# Altium footprint library STM32F4.PcbLib: 30 footprints (part 1 of 2)
Each footprint in its own frame and in the unit in brackets; x right, y up, seen from the top. Pads: shape width x height; smd on the part's side, far side on the other; paste and mask are expansions set on the pad; w line width, h text height; cw(c..) or ccw(c..) is an arc to the next point about the centre after c.
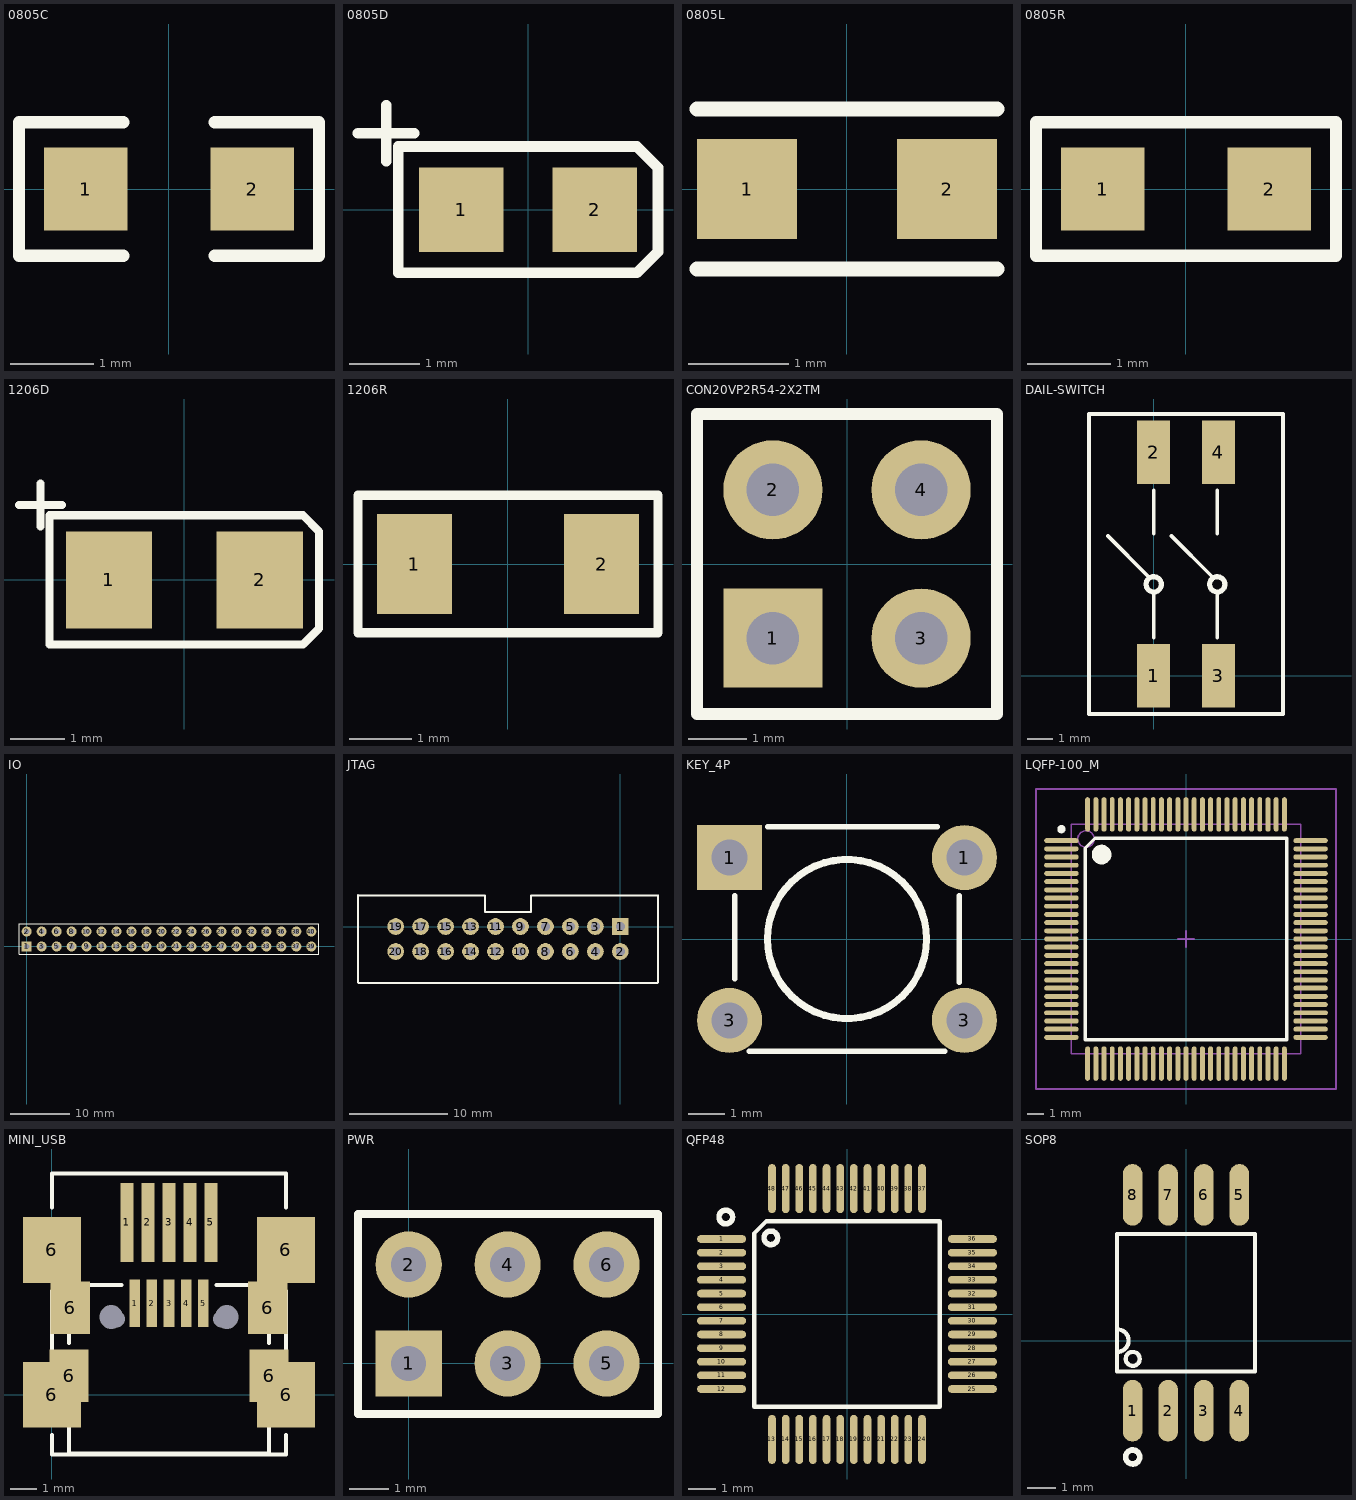
[diagram p0: the footprints below, top view; thin cyan lines are the x and y axes]

## 0805C [mm]
pads (2):
  rect 1x1 smd: 1(-1,0) 2(1,0)
Top Overlay:
  lines w0.15: -0.55,-0.8 -1.8,-0.8 -1.8,0.8 -0.55,0.8 ; 0.55,-0.8 1.8,-0.8 1.8,0.8 0.55,0.8

## 0805D [mm]
pads (2):
  rect 1.2x1.2 smd: 1(-0.95,0) 2(0.95,0)
Top Overlay:
  lines w0.15: -2.42,1.09 -1.62,1.09 ; -2.02,0.69 -2.02,1.49 ; -1.85,-0.9 -1.85,0.9 1.55,0.9 1.85,0.6 1.85,-0.6 1.55,-0.9 -1.85,-0.9

## 0805L [mm]
pads (2):
  rect 1x1 smd: 1(-1,0) 2(1,0)
Top Overlay:
  lines w0.15: -1.5,-0.8 1.5,-0.8 ; -1.5,0.8 1.5,0.8

## 0805R [mm]
pads (2):
  rect 1x1 smd: 1(-1,0) 2(1,0)
Top Overlay:
  lines w0.15: -1.8,-0.8 -1.8,0.8 1.8,0.8 1.8,-0.8 -1.8,-0.8

## 1206D [mm]
pads (2):
  rect 1.6x1.8 smd: 1(-1.4,0) 2(1.4,0)
Top Overlay:
  lines w0.15: -3.07,1.39 -2.27,1.39 ; -2.67,0.99 -2.67,1.79 ; -1.7,-1.2 -2.5,-1.2 ; -2.5,-1.2 -2.5,1.2 ; -2.5,-1.2 2.2,-1.2 2.5,-0.9 2.5,0.9 2.2,1.2 -2.5,1.2 ; -2.5,-1.2 -2.5,1.2

## 1206R [mm]
pads (2):
  rect 1.2x1.6 smd: 1(-1.5,0) 2(1.5,0)
Top Overlay:
  lines w0.15: -2.4,-1.1 -2.4,1.1 2.4,1.1 2.4,-1.1 -2.4,-1.1

## CON20VP2R54-2X2TM [mm]
pads (4):
  rect 1.7x1.7 hole 0.9: 1(-1.27,-1.27)
  round 1.7 hole 0.9: 2(-1.27,1.27) 3(1.27,-1.27) 4(1.27,1.27)
Top Overlay:
  lines w0.2: -2.57,-2.57 -2.57,2.57 2.57,2.57 2.57,-2.57 -2.57,-2.57

## DAIL-SWITCH [mm]
pads (4):
  rect 1.3x2.5 smd: 1(0,0) 2(0,8.8) 3(2.54,0) 4(2.54,8.8)
Top Overlay:
  circle w0.2: c2.5,3.6 r0.3
  circle w0.2: c0,3.6 r0.3
  lines w0.15: -1.8,5.5 -0.2,3.9 ; 0,1.5 0,2.5 0,3.3 ; 0,5.6 0,7.3 ; 0.7,5.5 2.3,3.9 ; 2.5,1.5 2.5,3.3 ; 2.5,5.6 2.5,7.3 ; -2.54,-1.5 5.08,-1.5 5.08,10.3 -2.54,10.3 -2.54,-1.5

## IO [mm]
pads (40):
  rect 1.7x1.7 hole 0.9: 1(0,0)
  round 1.7 hole 0.9: 2(0,2.54) 3(2.54,0) 4(2.54,2.54) 5(5.08,0) 6(5.08,2.54) 7(7.62,0) 8(7.62,2.54) 9(10.16,0) 10(10.16,2.54) 11(12.7,0) 12(12.7,2.54) 13(15.24,0) 14(15.24,2.54) 15(17.78,0) 16(17.78,2.54) 17(20.32,0) 18(20.32,2.54) 19(22.86,0) 20(22.86,2.54) 21(25.4,0) 22(25.4,2.54) 23(27.94,0) 24(27.94,2.54) 25(30.48,0) 26(30.48,2.54) 27(33.02,0) 28(33.02,2.54) 29(35.56,0) 30(35.56,2.54) 31(38.1,0) 32(38.1,2.54) 33(40.64,0) 34(40.64,2.54) 35(43.18,0) 36(43.18,2.54) 37(45.72,0) 38(45.72,2.54) 39(48.26,0) 40(48.26,2.54)
Top Overlay:
  lines w0.2: -1.3,-1.3 49.56,-1.3 49.56,3.84 -1.3,3.84 -1.3,-1.3

## JTAG [mm]
pads (20):
  rect 1.7x1.7 hole 0.9: 1(0,0)
  round 1.7 hole 0.9: 2(0,-2.54) 3(-2.54,0) 4(-2.54,-2.54) 5(-5.08,0) 6(-5.08,-2.54) 7(-7.62,0) 8(-7.62,-2.54) 9(-10.16,0) 10(-10.16,-2.54) 11(-12.7,0) 12(-12.7,-2.54) 13(-15.24,0) 14(-15.24,-2.54) 15(-17.78,0) 16(-17.78,-2.54) 17(-20.32,0) 18(-20.32,-2.54) 19(-22.86,0) 20(-22.86,-2.54)
Top Overlay:
  lines w0.2: 3.78,-5.72 1.3,-5.72 -24.16,-5.72 -26.38,-5.72 -26.65,-5.72 -26.685,-5.685 -26.685,-2.54 -26.685,0 -26.685,3.185 -26.68,3.18 -26.48,3.18 -24.16,3.18 -13.78,3.18 -13.78,1.5 -9.08,1.5 -9.08,3.18 -8.62,3.18 3.42,3.18 3.82,3.18 3.825,3.175 3.825,0 3.825,-2.54 3.825,-5.675

## KEY_4P [mm]
pads (4):
  rect 1.8x1.8 hole 1: 1(-3.25,2.25)
  round 1.8 hole 1: 1(3.25,2.25) 3(-3.25,-2.25) 3(3.25,-2.25)
Top Overlay:
  circle w0.2: c0,0 r2.2
  lines w0.15: -3.1,-1.1 -3.1,1.2 ; -2.7,-3.1 2.7,-3.1 ; -2.2,3.1 2.5,3.1 ; 3.1,-1.2 3.1,1.2

## LQFP-100_M [mm] "Thin QFP, 100"
height 1.6
pads (100):
  oval 2.1x0.3 smd: 1(-7.6,6) 2(-7.6,5.5) 3(-7.6,5) 4(-7.6,4.5) 5(-7.6,4) 6(-7.6,3.5) 7(-7.6,3) 8(-7.6,2.5) 9(-7.6,2) 10(-7.6,1.5) 11(-7.6,1) 12(-7.6,0.5) 13(-7.6,0) 14(-7.6,-0.5) 15(-7.6,-1) 16(-7.6,-1.5) 17(-7.6,-2) 18(-7.6,-2.5) 19(-7.6,-3) 20(-7.6,-3.5) 21(-7.6,-4) 22(-7.6,-4.5) 23(-7.6,-5) 24(-7.6,-5.5) 25(-7.6,-6) 51(7.6,-6) 52(7.6,-5.5) 53(7.6,-5) 54(7.6,-4.5) 55(7.6,-4) 56(7.6,-3.5) 57(7.6,-3) 58(7.6,-2.5) 59(7.6,-2) 60(7.6,-1.5) 61(7.6,-1) 62(7.6,-0.5) 63(7.6,0) 64(7.6,0.5) 65(7.6,1) 66(7.6,1.5) 67(7.6,2) 68(7.6,2.5) 69(7.6,3) 70(7.6,3.5) 71(7.6,4) 72(7.6,4.5) 73(7.6,5) 74(7.6,5.5) 75(7.6,6)
  oval 0.3x2.1 smd: 26(-6,-7.6) 27(-5.5,-7.6) 28(-5,-7.6) 29(-4.5,-7.6) 30(-4,-7.6) 31(-3.5,-7.6) 32(-3,-7.6) 33(-2.5,-7.6) 34(-2,-7.6) 35(-1.5,-7.6) 36(-1,-7.6) 37(-0.5,-7.6) 38(0,-7.6) 39(0.5,-7.6) 40(1,-7.6) 41(1.5,-7.6) 42(2,-7.6) 43(2.5,-7.6) 44(3,-7.6) 45(3.5,-7.6) 46(4,-7.6) 47(4.5,-7.6) 48(5,-7.6) 49(5.5,-7.6) 50(6,-7.6) 76(6,7.6) 77(5.5,7.6) 78(5,7.6) 79(4.5,7.6) 80(4,7.6) 81(3.5,7.6) 82(3,7.6) 83(2.5,7.6) 84(2,7.6) 85(1.5,7.6) 86(1,7.6) 87(0.5,7.6) 88(0,7.6) 89(-0.5,7.6) 90(-1,7.6) 91(-1.5,7.6) 92(-2,7.6) 93(-2.5,7.6) 94(-3,7.6) 95(-3.5,7.6) 96(-4,7.6) 97(-4.5,7.6) 98(-5,7.6) 99(-5.5,7.6) 100(-6,7.6)
Top Overlay:
  circle w0.6: c-5.15,5.15 r0.3
  circle w0.25: c-7.6,6.7 r0.125
  lines w0.2: -6.15,-6.15 6.15,-6.15 6.15,6.15 -5.55,6.15 -6.15,5.55 -6.15,-6.15
Mechanical 13:
  circle w0.1: c-6.1,6.1 r0.5
  lines w0.1: -7,-7 7,-7 7,7 -7,7 -7,-7
Mechanical 15:
  lines w0.1: -0.5,0 0.5,0 ; 0,-0.5 0,0.5 ; -9.15,-9.15 9.15,-9.15 9.15,9.15 -9.15,9.15 -9.15,-9.15
3D body: height 0.8, standoff 0, extent -7,-7 7,7

## MINI_USB [mm]
pads (22):
  rect 0.5x3 smd: 1(2.85,6.55) 2(3.65,6.55) 3(4.45,6.55) 4(5.25,6.55) 5(6.04,6.546)
  rect 0.4x1.8 smd: 1(3.15,3.47) 2(3.8,3.47) 3(4.45,3.47) 4(5.1,3.47) 5(5.75,3.47)
  rect 2.2x2.5 smd: 6(0,0) 6(0,5.5) 6(8.89,5.5) 6(8.9,0)
  rect 1.5x2 smd: 6(0.65,0.72) 6(0.7,3.3) 6(8.2,3.3) 6(8.25,0.72)
  rect 0x0 hole 0.9: 6(2.25,2.95) 6(6.65,2.95)
  rect 0x0 hole 0.65: 6(2.45,2.87) 6(6.45,2.87)
Top Overlay:
  lines w0.15: 0,-1.524 0,-2.27 8.9,-2.27 8.9,-1.534 ; 0,1.524 0,3.937 ; 0,7.112 0,8.4 8.89,8.4 8.89,7.112 ; 0.65,-0.53 0.65,-2.23 8.25,-2.23 8.25,-0.53 ; 0.65,1.97 0.65,4.17 2.65,4.17 ; 6.25,4.17 8.25,4.17 8.25,1.97 ; 8.89,1.524 8.89,3.937

## PWR [mm]
pads (6):
  rect 1.7x1.7 hole 0.9: 1(0,0)
  round 1.7 hole 0.9: 2(0,2.54) 3(2.54,0) 4(2.54,2.54) 5(5.08,0) 6(5.08,2.54)
Top Overlay:
  lines w0.2: -1.3,-1.3 6.4,-1.3 6.4,3.84 -1.3,3.84 -1.3,-1.3

## QFP48 [mm]
pads (48):
  oval 1.8x0.28 smd: 1(-4.6,2.75) 2(-4.6,2.25) 3(-4.6,1.75) 4(-4.6,1.25) 5(-4.6,0.75) 6(-4.6,0.25) 7(-4.6,-0.25) 8(-4.6,-0.75) 9(-4.6,-1.25) 10(-4.6,-1.75) 11(-4.6,-2.25) 12(-4.6,-2.75) 25(4.6,-2.75) 26(4.6,-2.25) 27(4.6,-1.75) 28(4.6,-1.25) 29(4.6,-0.75) 30(4.6,-0.25) 31(4.6,0.25) 32(4.6,0.75) 33(4.6,1.25) 34(4.6,1.75) 35(4.6,2.25) 36(4.6,2.75)
  oval 0.28x1.8 smd: 13(-2.75,-4.6) 14(-2.25,-4.6) 15(-1.75,-4.6) 16(-1.25,-4.6) 17(-0.75,-4.6) 18(-0.25,-4.6) 19(0.25,-4.6) 20(0.75,-4.6) 21(1.25,-4.6) 22(1.75,-4.6) 23(2.25,-4.6) 24(2.75,-4.6) 37(2.75,4.6) 38(2.25,4.6) 39(1.75,4.6) 40(1.25,4.6) 41(0.75,4.6) 42(0.25,4.6) 43(-0.25,4.6) 44(-0.75,4.6) 45(-1.25,4.6) 46(-1.75,4.6) 47(-2.25,4.6) 48(-2.75,4.6)
Top Overlay:
  circle w0.2: c-4.445,3.556 r0.25
  circle w0.2: c-2.794,2.794 r0.25
  lines w0.15: -3.402,-3.402 -3.402,2.54 -3.402,2.948 -2.948,3.402 -2.54,3.402 3.402,3.402 3.402,-3.402 -3.402,-3.402

## SOP8 [mm]
pads (8):
  oval 0.7x2.2 smd: 1(-1.905,-2.5) 2(-0.635,-2.5) 3(0.635,-2.5) 4(1.905,-2.5) 5(1.905,5.2) 6(0.635,5.2) 7(-0.635,5.2) 8(-1.905,5.2)
Top Overlay:
  circle w0.2: c-1.9,-4.15 r0.25
  circle w0.15: c-1.9,-0.65 r0.25
  lines w0.15: -2.447,-0.4 ccw(c-2.447,0) -2.447,0.4 ; -2.46,-1.1 2.46,-1.1 2.46,3.8 -2.46,3.8 -2.46,-1.1